# Altium footprint library 78F5R6J-RC.PcbLib: 1 footprints
Each footprint in its own frame and in the unit in brackets; x right, y up, seen from the top. Pads: shape width x height; smd on the part's side, far side on the other; paste and mask are expansions set on the pad; w line width, h text height; cw(c..) or ccw(c..) is an arc to the next point about the centre after c.
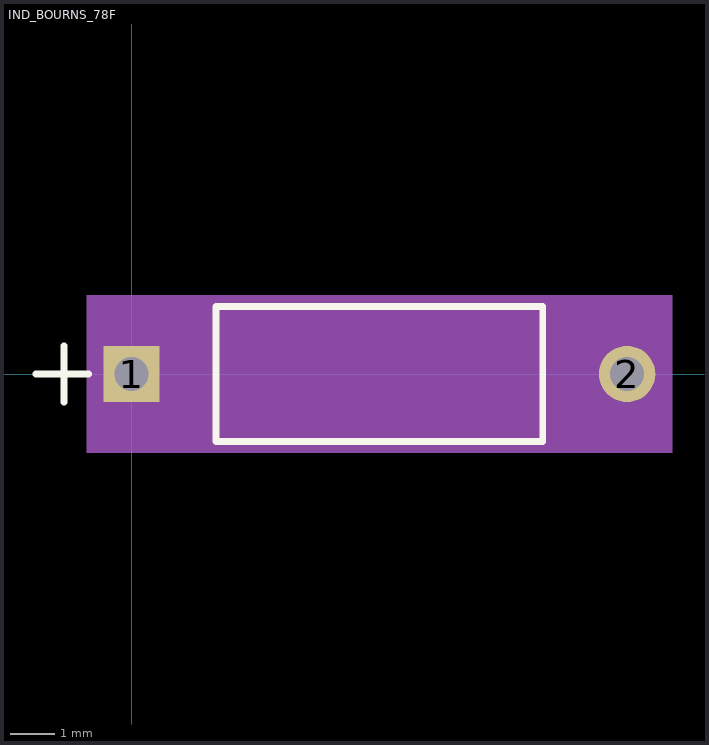
[diagram p0: the footprint, top view; thin cyan lines are the x and y axes]

## IND_BOURNS_78F [mil]
pads (2):
  rect 50x50 hole 30 mask+0: 1(0,0)
  round 50 hole 30 mask+0: 2(440,0)
Top Overlay:
  lines w6: -85,0 -38.1,0 ; -60,-25 -60,25 ; 75,-60 365,-60 365,60 75,60 75,-60
Mechanical 5:
  region: 480,-70 -40,-70 -40,70 480,70
Mechanical 13:
  lines w1: -85,0 -35,0 ; -60,-25 -60,25 ; 0,0 80,0 ; 360,0 440,0 ; 80,-55 360,-55 360,55 80,55 80,-55
Mechanical 15:
  region: 70,-35 -35,-35 -35,35 70,35 70,65 370,65 370,35 475,35 475,-35 370,-35 370,-65 70,-65
  lines w6: -35,-35 -35,35 70,35 70,65 370,65 370,35 475,35 475,-35 370,-35 370,-65 70,-65 70,-35 -35,-35
3D body "IND_BOURNS_78F.step": height 110.04, standoff -100, extent -10,-54.7 450,54.7